# EAGLE library part OV767OFIFO (library ME433)
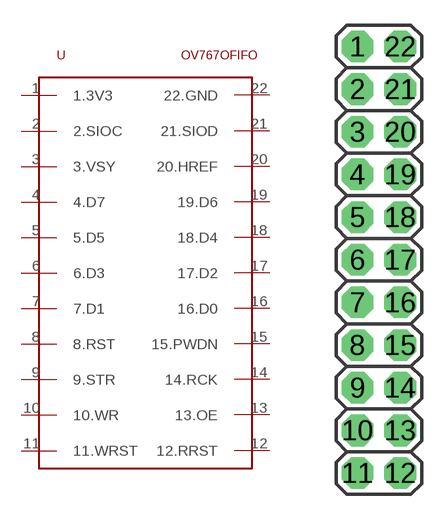
[diagram p11: symbol with the pads of OV767OFIFO; footprint OV767OFIFO]

Designator prefix -

## OV767OFIFO  [OV767OFIFO]
1  1.3V3
2  2.SIOC
3  3.VSY
4  4.D7
5  5.D5
6  6.D3
7  7.D1
8  8.RST
9  9.STR
10  10.WR
11  11.WRST
12  12.RRST
13  13.OE
14  14.RCK
15  15.PWDN
16  16.D0
17  17.D2
18  18.D4
19  19.D6
20  20.HREF
21  21.SIOD
22  22.GND

## Footprint OV767OFIFO (pad centres in mm)
drill 1.016 pad 1.88 octagon: 1 -1.27,11.43; 2 -1.27,8.89; 3 -1.27,6.35; 4 -1.27,3.81; 5 -1.27,1.27; 6 -1.27,-1.27; 7 -1.27,-3.81; 8 -1.27,-6.35; 9 -1.27,-8.89; 10 -1.27,-11.43; 11 -1.27,-13.97; 12 1.27,-13.97; 13 1.27,-11.43; 14 1.27,-8.89; 15 1.27,-6.35; 16 1.27,-3.81; 17 1.27,-1.27; 18 1.27,1.27; 19 1.27,3.81; 20 1.27,6.35; 21 1.27,8.89; 22 1.27,11.43